# Altium schematic symbol library microchip.SCHLIB: 6 symbols
Pins are listed as number, name and electrical type; pins without a type are passive.

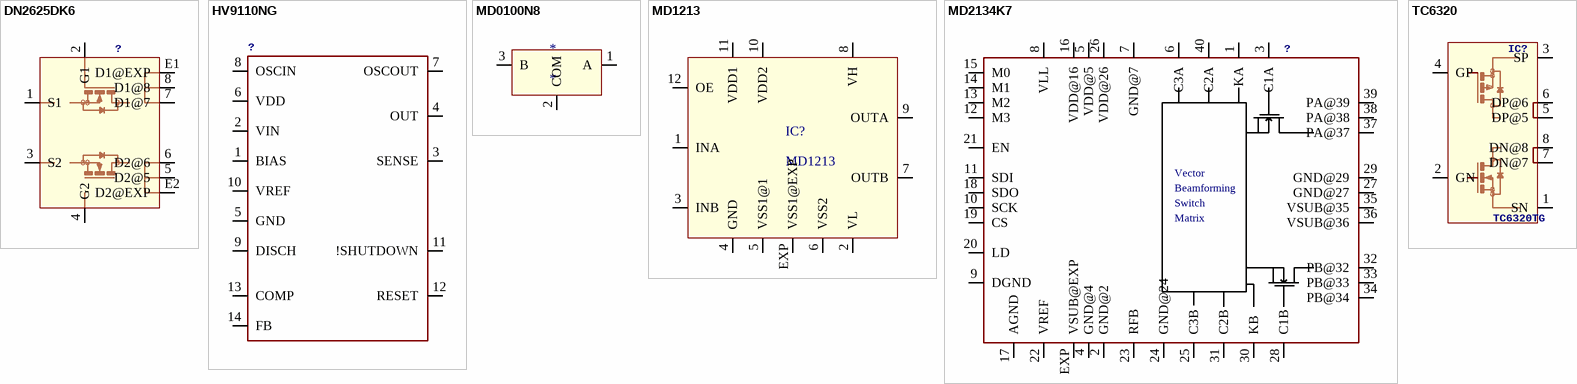
[diagram p0: symbols DN2625DK6 to TC6320]

## DN2625DK6
designator ?
footprint DFN8K6
pins: 1 S1, 2 G1, 3 S2, 4 G2, 5 D2@5, 6 D2@6, 7 D1@7, 8 D1@8, E1 D1@EXP, E2 D2@EXP

## HV9110NG
designator ?
footprint SOIC14
pins: 1 BIAS, 2 VIN, 3 SENSE, 4 OUT, 5 GND (power), 6 VDD (power), 7 OSCOUT, 8 OSCIN, 9 DISCH, 10 VREF, 11 !SHUTDOWN, 12 RESET, 13 COMP, 14 FB

## MD0100N8
designator *
footprint SOT89
pins: 1 A, 2 COM, 3 B

## MD1213
designator IC?
Manufacturer: Microchip; Value: MD1213
footprint AMS-QFN-12-4000X4000DE-2125X2125TP_L (QFN, 12-Leads, Body 4.00x4.00mm, Pitch 0.80mm, Thermal Pad 2.13x2.13mm, IPC High Density)
pins: 1 INA, 2 VL (power), 3 INB, 4 GND (power), 5 VSS1@1 (power), 6 VSS2 (power), 7 OUTB, 8 VH (power), 9 OUTA, 10 VDD2 (power), 11 VDD1 (power), 12 OE, EXP VSS1@EXP (power)

## MD2134K7
designator ?
MPN: MD2134K7
footprint QFN40-5X5
pins: 1 KA, 2 GND@2 (power), 3 C1A, 4 GND@4 (power), 5 VDD@5 (power), 6 C3A, 7 GND@7 (power), 8 VLL (power), 9 DGND (power), 10 SCK, 11 SDI, 12 M3, 13 M2, 14 M1, 15 M0, 16 VDD@16 (power), 17 AGND (power), 18 SDO, 19 CS, 20 LD, 21 EN, 22 VREF (power), 23 RFB, 24 GND@24 (power), 25 C3B, 26 VDD@26 (power), 27 GND@27 (power), 28 C1B, 29 GND@29 (power), 30 KB, 31 C2B, 32 PB@32, 33 PB@33, 34 PB@34, 35 VSUB@35 (power), 36 VSUB@36 (power), 37 PA@37, 38 PA@38, 39 PA@39, 40 C2A, EXP VSUB@EXP (power)
text: Vector; Beamforming; Switch; Matrix

## TC6320
designator IC?, comment TC6320TG
Manufacturer: Microchip; Value: TC6320TG
footprint SO08
pins: 1 SN, 2 GN, 3 SP, 4 GP, 5 DP@5, 6 DP@6, 7 DN@7, 8 DN@8